# Altium integrated library Resistor_10K_0805.IntLib: 1 symbol
Pins are listed as number, name and electrical type; pins without a type are passive.

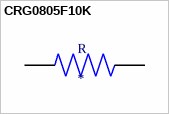
[diagram p0: symbol CRG0805F10K]

## CRG0805F10K
designator R
CRG0805 1% 10K; Voltage_Rating: 150 V; MF: TE Connectivity; Power_Rating: .125 W; MP: CRG0805F10K; Resistance: 10K; Price: None; Package: 0805; Value: *; TE_purchase_URL: https://www.te.com/usa-en/product-1623097-1.html?te_bu=Cor&te_type=disp&te_campaign=seda_glo_cor-seda-global-disp-prtnr-fy19-seda-model-bom-cta_sma-317_1&elqCampaignId=32493; SnapEDA_Link: https://www.snapeda.com/parts/CRG0805F10K/TE%20Connectivity%20Passive%20Product/view-part/480372/?ref=snap; Availability: Unavailable; Tolerance: 1%; EU_RoHS_Compliance: Compliant with Exemptions
footprint RESC2012X65N
pins: 1, 2